# EAGLE library part BM15B-NSHSS-TBT (library NSH)
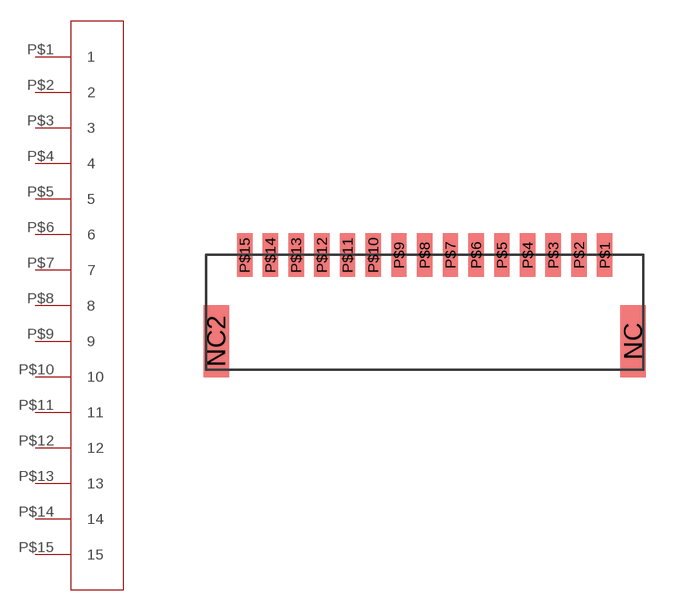
[diagram p9: symbol with the pads of BM15B-NSHSS-TBT; footprint BM15B-NSHSS-TBT]

Designator prefix -

## BM15B-NSHSS-TBT  [BM15B-NSHSS-TBT]
P$1  1
P$2  2
P$3  3
P$4  4
P$5  5
P$6  6
P$7  7
P$8  8
P$9  9
P$10  10
P$11  11
P$12  12
P$13  13
P$14  14
P$15  15

## Footprint BM15B-NSHSS-TBT (pad centres in mm)
smd 1 x 2.8: NC 8.1,1.4; NC2 -8.1,1.4
smd 0.6 x 1.7: P$1 7,4.75; P$2 6,4.75; P$3 5,4.75; P$4 4,4.75; P$5 3,4.75; P$6 2,4.75; P$7 1,4.75; P$8 0,4.75; P$9 -1,4.75; P$10 -2,4.75; P$11 -3,4.75; P$12 -4,4.75; P$13 -5,4.75; P$14 -6,4.75; P$15 -7,4.75